# EAGLE library part MOD_HDL_XCM110 (library akita)
HumanData's FPGA board, XCM-110
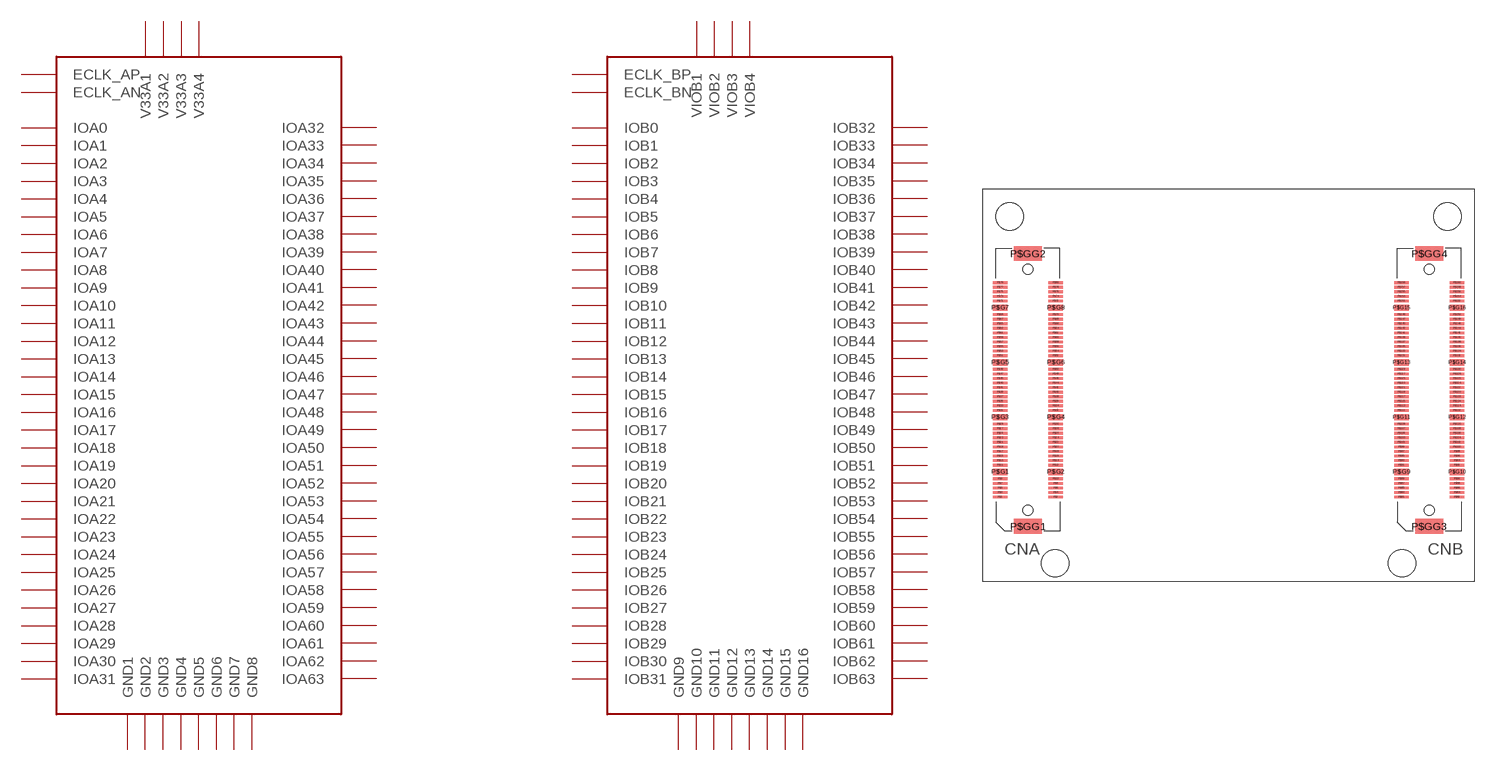
[diagram p139: symbol with the pads of MOD_HDL_XCM110; footprint MOD_HDL_XCM110]

Designator prefix U

## MOD_HDL_XCM110  [MOD_HDL_XCM110]
P$1  V33A1
P$2  V33A2
P$3  V33A3
P$4  V33A4
P$11  ECLK_AP
P$12  ECLK_AN
P$17  IOA0
P$18  IOA32
P$19  IOA1
P$20  IOA33
P$21  IOA2
P$22  IOA34
P$23  IOA3
P$24  IOA35
P$25  IOA4
P$26  IOA36
P$27  IOA5
P$28  IOA37
P$29  IOA6
P$30  IOA38
P$31  IOA7
P$32  IOA39
P$33  IOA8
P$34  IOA40
P$35  IOA9
P$36  IOA41
P$37  IOA10
P$38  IOA42
P$39  IOA11
P$40  IOA43
P$41  IOA12
P$42  IOA44
P$43  IOA13
P$44  IOA45
P$45  IOA14
P$46  IOA46
P$47  IOA15
P$48  IOA47
P$49  IOA16
P$50  IOA48
P$51  IOA17
P$52  IOA49
P$53  IOA18
P$54  IOA50
P$55  IOA19
P$56  IOA51
P$57  IOA20
P$58  IOA52
P$59  IOA21
P$60  IOA53
P$61  IOA22
P$62  IOA54
P$63  IOA23
P$64  IOA55
P$65  IOA24
P$66  IOA56
P$67  IOA25
P$68  IOA57
P$69  IOA26
P$70  IOA58
P$71  IOA27
P$72  IOA59
P$73  IOA28
P$74  IOA60
P$75  IOA29
P$76  IOA61
P$77  IOA30
P$78  IOA62
P$79  IOA31
P$80  IOA63
P$81  VIOB1
P$82  VIOB2
P$83  VIOB3
P$84  VIOB4
P$91  ECLK_BP
P$92  ECLK_BN
P$97  IOB0
P$98  IOB32
P$99  IOB1
P$100  IOB33
P$101  IOB2
P$102  IOB34
P$103  IOB3
P$104  IOB35
P$105  IOB4
P$106  IOB36
P$107  IOB5
P$108  IOB37
P$109  IOB6
P$110  IOB38
P$111  IOB7
P$112  IOB39
P$113  IOB8
P$114  IOB40
P$115  IOB9
P$116  IOB41
P$117  IOB10
P$118  IOB42
P$119  IOB11
P$120  IOB43
P$121  IOB12
P$122  IOB44
P$123  IOB13
P$124  IOB45
P$125  IOB14
P$126  IOB46
P$127  IOB15
P$128  IOB47
P$129  IOB16
P$130  IOB48
P$131  IOB17
P$132  IOB49
P$133  IOB18
P$134  IOB50
P$135  IOB19
P$136  IOB51
P$137  IOB20
P$138  IOB52
P$139  IOB21
P$140  IOB53
P$141  IOB22
P$142  IOB54
P$143  IOB23
P$144  IOB55
P$145  IOB24
P$146  IOB56
P$147  IOB25
P$148  IOB57
P$149  IOB26
P$150  IOB58
P$151  IOB27
P$152  IOB59
P$153  IOB28
P$154  IOB60
P$155  IOB29
P$156  IOB61
P$157  IOB30
P$158  IOB62
P$159  IOB31
P$160  IOB63
P$G1  GND1
P$G2  GND2
P$G3  GND3
P$G4  GND4
P$G5  GND5
P$G6  GND6
P$G7  GND7
P$G8  GND8
P$G9  GND9
P$G10  GND10
P$G11  GND11
P$G12  GND12
P$G13  GND13
P$G14  GND14
P$G15  GND15
P$G16  GND16

## Footprint MOD_HDL_XCM110 (pad centres in mm)
smd 1.6 x 0.3: P$1 -25.05,-12.25; P$2 -18.95,-12.25; P$3 -25.05,-11.75; P$4 -18.95,-11.75; P$5 -25.05,-11.25; P$6 -18.95,-11.25; P$7 -25.05,-10.75; P$8 -18.95,-10.75; P$9 -25.05,-10.25; P$10 -18.95,-10.25; P$11 -25.05,-8.75; P$12 -18.95,-8.75; P$13 -25.05,-8.25; P$14 -18.95,-8.25; P$15 -25.05,-7.75; P$16 -18.95,-7.75; P$17 -25.05,-7.25; P$18 -18.95,-7.25; P$19 -25.05,-6.75; P$20 -18.95,-6.75; P$21 -25.05,-6.25; P$22 -18.95,-6.25; P$23 -25.05,-5.75; P$24 -18.95,-5.75; P$25 -25.05,-5.25; P$26 -18.95,-5.25; P$27 -25.05,-4.75; P$28 -18.95,-4.75; P$29 -25.05,-4.25; P$30 -18.95,-4.25; P$31 -25.05,-2.75; P$32 -18.95,-2.75; P$33 -25.05,-2.25; P$34 -18.95,-2.25; P$35 -25.05,-1.75; P$36 -18.95,-1.75; P$37 -25.05,-1.25; P$38 -18.95,-1.25; P$39 -25.05,-0.75; P$40 -18.95,-0.75; P$41 -25.05,-0.25; P$42 -18.95,-0.25; P$43 -25.05,0.25; P$44 -18.95,0.25; P$45 -25.05,0.75; P$46 -18.95,0.75; P$47 -25.05,1.25; P$48 -18.95,1.25; P$49 -25.05,1.75; P$50 -18.95,1.75; P$51 -25.05,3.25; P$52 -18.95,3.25; P$53 -25.05,3.75; P$54 -18.95,3.75; P$55 -25.05,4.25; P$56 -18.95,4.25; P$57 -25.05,4.75; P$58 -18.95,4.75; P$59 -25.05,5.25; P$60 -18.95,5.25; P$61 -25.05,5.75; P$62 -18.95,5.75; P$63 -25.05,6.25; P$64 -18.95,6.25; P$65 -25.05,6.75; P$66 -18.95,6.75; P$67 -25.05,7.25; P$68 -18.95,7.25; P$69 -25.05,7.75; P$70 -18.95,7.75; P$71 -25.05,9.25; P$72 -18.95,9.25; P$73 -25.05,9.75; P$74 -18.95,9.75; P$75 -25.05,10.25; P$76 -18.95,10.25; P$77 -25.05,10.75; P$78 -18.95,10.75; P$79 -25.05,11.25; P$80 -18.95,11.25; P$81 18.95,-12.25; P$82 25.05,-12.25; P$83 18.95,-11.75; P$84 25.05,-11.75; P$85 18.95,-11.25; P$86 25.05,-11.25; P$87 18.95,-10.75; P$88 25.05,-10.75; P$89 18.95,-10.25; P$90 25.05,-10.25; P$91 18.95,-8.75; P$92 25.05,-8.75; P$93 18.95,-8.25; P$94 25.05,-8.25; P$95 18.95,-7.75; P$96 25.05,-7.75; P$97 18.95,-7.25; P$98 25.05,-7.25; P$99 18.95,-6.75; P$100 25.05,-6.75; P$101 18.95,-6.25; P$102 25.05,-6.25; P$103 18.95,-5.75; P$104 25.05,-5.75; P$105 18.95,-5.25; P$106 25.05,-5.25; P$107 18.95,-4.75; P$108 25.05,-4.75; P$109 18.95,-4.25; P$110 25.05,-4.25; P$111 18.95,-2.75; P$112 25.05,-2.75; P$113 18.95,-2.25; P$114 25.05,-2.25; P$115 18.95,-1.75; P$116 25.05,-1.75; P$117 18.95,-1.25; P$118 25.05,-1.25; P$119 18.95,-0.75; P$120 25.05,-0.75; P$121 18.95,-0.25; P$122 25.05,-0.25; P$123 18.95,0.25; P$124 25.05,0.25; P$125 18.95,0.75; P$126 25.05,0.75; P$127 18.95,1.25; P$128 25.05,1.25; P$129 18.95,1.75; P$130 25.05,1.75; P$131 18.95,3.25; P$132 25.05,3.25; P$133 18.95,3.75; P$134 25.05,3.75; P$135 18.95,4.25; P$136 25.05,4.25; P$137 18.95,4.75; P$138 25.05,4.75; P$139 18.95,5.25; P$140 25.05,5.25; P$141 18.95,5.75; P$142 25.05,5.75; P$143 18.95,6.25; P$144 25.05,6.25; P$145 18.95,6.75; P$146 25.05,6.75; P$147 18.95,7.25; P$148 25.05,7.25; P$149 18.95,7.75; P$150 25.05,7.75; P$151 18.95,9.25; P$152 25.05,9.25; P$153 18.95,9.75; P$154 25.05,9.75; P$155 18.95,10.25; P$156 25.05,10.25; P$157 18.95,10.75; P$158 25.05,10.75; P$159 18.95,11.25; P$160 25.05,11.25
smd 1.6 x 0.7: P$G1 -25.05,-9.5; P$G2 -18.95,-9.5; P$G3 -25.05,-3.5; P$G4 -18.95,-3.5; P$G5 -25.05,2.5; P$G6 -18.95,2.5; P$G7 -25.05,8.5; P$G8 -18.95,8.5; P$G9 18.95,-9.5; P$G10 25.05,-9.5; P$G11 18.95,-3.5; P$G12 25.05,-3.5; P$G13 18.95,2.5; P$G14 25.05,2.5; P$G15 18.95,8.5; P$G16 25.05,8.5
smd 3.1 x 1.6: P$GG1 -22,-15.45; P$GG2 -22,14.45; P$GG3 22,-15.45; P$GG4 22,14.45
hole 1.1 at -22,-13.7
hole 1.1 at -22,12.7
hole 1.1 at 22,-13.7
hole 1.1 at 22,12.7
hole 3 at 24,18.5
hole 3 at -24,18.5
hole 3 at 19,-19.5
hole 3 at -19,-19.5